# EAGLE library part TSH72 (library OP_AMP)
The TSH7x series offers single, dual, triple, and quad operational amplifiers featuring high video performances with large bandwidth, low distortion, and excellent supply voltage rejection. Running with a single supply voltage from 3 V to 12 V, these amplifiers feature a large output voltage swing and high output current capable of driving standard 150 Ω loads. A low operating voltage makes TSH7x amplifiers ideal for use in portable equipment. The TSH71, TSH73, and TSH75 also feature standby inputs, each of which allows the op-amp to be put into a standby mode with low-power consumption and high-output impedance. This function allows power saving or signal switching/multiplexing for high-speed applications and video applications. To economize both board space and weight, the TSH7x series is proposed in SOT23-5, SO, and TSSOP packages
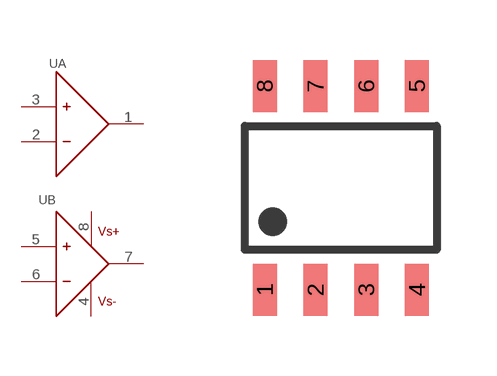
[diagram p4: symbol with the pads of SO-8; footprint SO-8]

Designator prefix U; gates A=OP_AMP B=OP_AMP_PWR

## TSH72CDT  [SO-8]
1  A:OUT
2  A:IN-
3  A:IN+
4  B:VS-
5  B:IN+
6  B:IN-
7  B:OUT
8  B:VS+

## Footprint SO-8 (pad centres in mm)
smd 0.6 x 1.3: 1 0,0; 2 1.27,0; 3 2.54,0; 4 3.81,0; 5 3.81,5.1; 6 2.54,5.1; 7 1.27,5.1; 8 0,5.1